# EAGLE library part DIP-IC-SOCKET(2X14P-2.54) (library OPL_Connector)
320070000
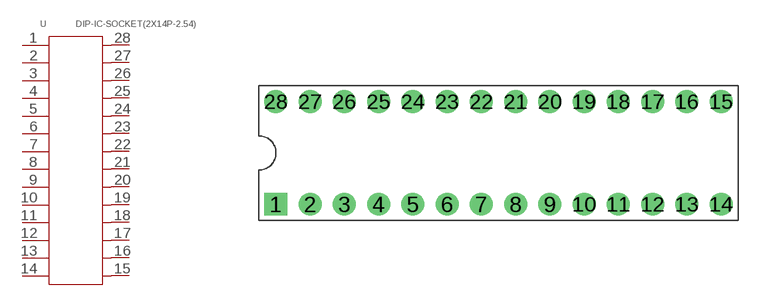
[diagram p23: symbol with the pads of SCK28-2.54-35.6X10MM; footprint SCK28-2.54-35.6X10MM]

Designator prefix U

## DIP-IC-SOCKET(2X14P-2.54) (MPN: ICX-28P; VALUE: 2x14p-2.54)  [SCK28-2.54-35.6X10MM]
1  1
2  2
3  3
4  4
5  5
6  6
7  7
8  8
9  9
10  10
11  11
12  12
13  13
14  14
15  15
16  16
17  17
18  18
19  19
20  20
21  21
22  22
23  23
24  24
25  25
26  26
27  27
28  28

## Footprint SCK28-2.54-35.6X10MM (pad centres in mm)
drill 1 pad 1.7 square: 1 -16.51,-3.81
drill 1 pad 1.7: 2 -13.97,-3.81; 3 -11.43,-3.81; 4 -8.89,-3.81; 5 -6.35,-3.81; 6 -3.81,-3.81; 7 -1.27,-3.81; 8 1.27,-3.81; 9 3.81,-3.81; 10 6.35,-3.81; 11 8.89,-3.81; 12 11.43,-3.81; 13 13.97,-3.81; 14 16.51,-3.81; 15 16.51,3.81; 16 13.97,3.81; 17 11.43,3.81; 18 8.89,3.81; 19 6.35,3.81; 20 3.81,3.81; 21 1.27,3.81; 22 -1.27,3.81; 23 -3.81,3.81; 24 -6.35,3.81; 25 -8.89,3.81; 26 -11.43,3.81; 27 -13.97,3.81; 28 -16.51,3.81